# EAGLE library part E5R (library resistor-sil)
SIL RESISTOR
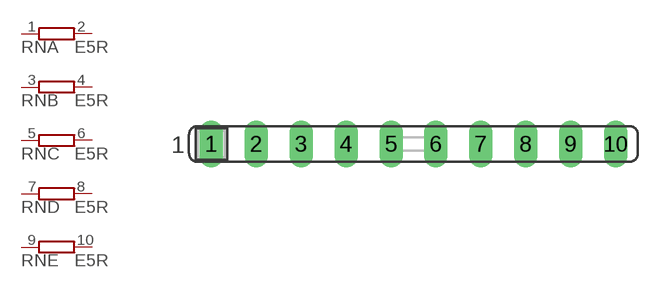
[diagram p10: symbol with the pads of SIL10; footprint SIL10]

Designator prefix RN; gates A=RNV B=RNV C=RNV D=RNV E=RNV

## E5R (OC_FARNELL: unknown; OC_NEWARK: unknown)  [SIL10]
1  A:1  pas
2  A:2  pas
3  B:1  pas
4  B:2  pas
5  C:1  pas
6  C:2  pas
7  D:1  pas
8  D:2  pas
9  E:1  pas
10  E:2  pas

## Footprint SIL10 (pad centres in mm)
Single In Line
drill 0.813 long: 1 -11.43,0; 2 -8.89,0; 3 -6.35,0; 4 -3.81,0; 5 -1.27,0; 6 1.27,0; 7 3.81,0; 8 6.35,0; 9 8.89,0; 10 11.43,0